# EAGLE library part HDSP21XX (library display-hp)
LED DISPLAY 8-character dot matrix
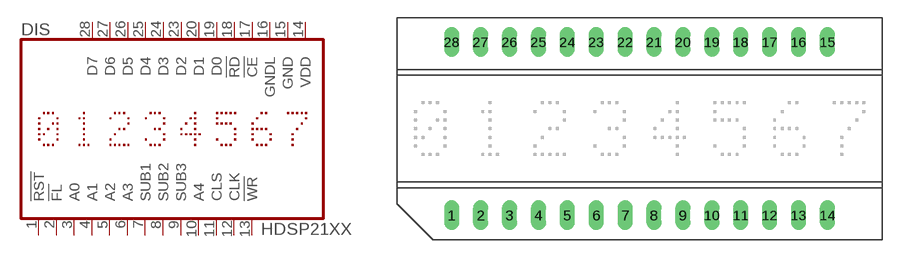
[diagram p33: symbol with the pads of HDSP21XX; footprint HDSP21XX]

Designator prefix DIS

## HDSP21XX (MF: AGILENT TECHNOLOGIES; MPN: HDSP-2179; OC_FARNELL: 1175588; OC_NEWARK: 06B1344)  [HDSP21XX]
1  !RST  in
2  !FL  in
3  A0  in
4  A1  in
5  A2  in
6  A3  in
7  SUB1  pas
8  SUB2  pas
9  SUB3  pas
10  A4  in
11  CLS  in
12  CLK  in
13  !WR  in
14  VDD  pwr
15  GND  pwr
16  GNDL  pwr
17  !CE  in
18  !RD  in
19  D0  in
20  D1  in
23  D2  in
24  D3  in
25  D4  in
26  D5  in
27  D6  in
28  D7  in

## Footprint HDSP21XX (pad centres in mm)
LED DISPLAY 5-mm 8 character dot matrix without decimal point
drill 0.813 long: 1 -16.51,-7.62; 2 -13.97,-7.62; 3 -11.43,-7.62; 4 -8.89,-7.62; 5 -6.35,-7.62; 6 -3.81,-7.62; 7 -1.27,-7.62; 8 1.27,-7.62; 9 3.81,-7.62; 10 6.35,-7.62; 11 8.89,-7.62; 12 11.43,-7.62; 13 13.97,-7.62; 14 16.51,-7.62; 15 16.51,7.62; 16 13.97,7.62; 17 11.43,7.62; 18 8.89,7.62; 19 6.35,7.62; 20 3.81,7.62; 21 1.27,7.62; 22 -1.27,7.62; 23 -3.81,7.62; 24 -6.35,7.62; 25 -8.89,7.62; 26 -11.43,7.62; 27 -13.97,7.62; 28 -16.51,7.62